# Altium schematic symbol library Battery.SchLib: 7 symbols
Pins are listed as number, name and electrical type; pins without a type are passive.

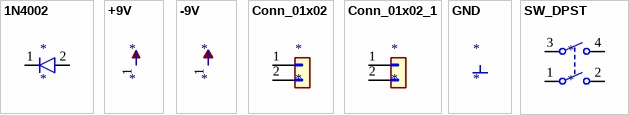
[diagram p0: symbols 1N4002 to SW_DPST]

## 1N4002
designator *
pins: 1 K, 2 A

## +9V
designator *
pins: 1 +9V (power)

## -9V
designator *
pins: 1 -9V (power)

## Conn_01x02
designator *
pins: 1 Pin_1, 2

## Conn_01x02_1
designator *
pins: 1 Pin_1, 2 Pin_2

## GND
designator *
pins: 1 GND (power) hidden

## SW_DPST
designator *
pins: 1, 2, 3, 4